# Altium integrated library TI Power Management Power Modules.IntLib: 831 symbols (part 36 of 44)
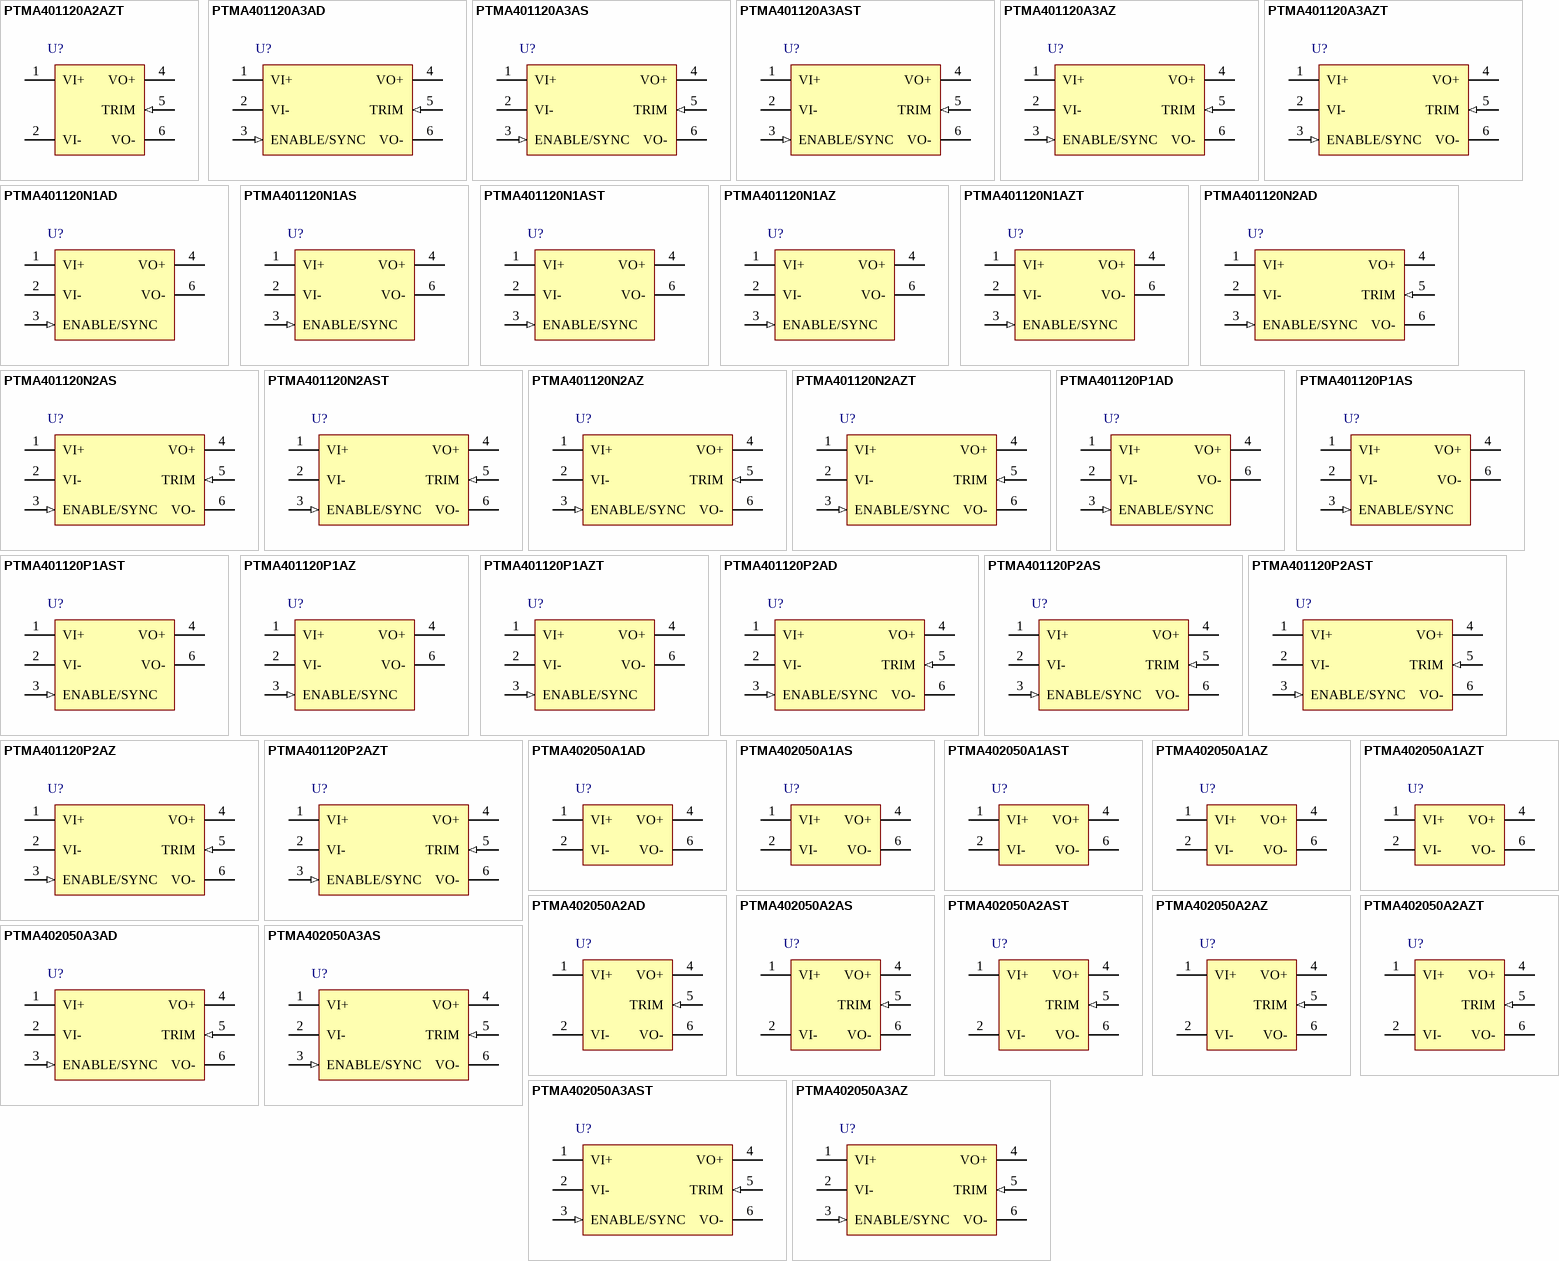
[diagram p58: symbols PTMA401120A2AZT to PTMA402050A3AZ]

## PTMA402050A1AZ
designator U?
10 W, 36 to 75 V Input, 1500 V Isolation, DC-DC Converter, -40 to 85 degC, 4-pin Module (BET4), Pb-Free (RoHS); Manufacturer: Texas Instruments; PartNumber: PTMA402050A1AZ; Iout(Max)(A): 2; Regulated Outputs(#): 1; SubFamily: Standard Brick Module; Vin(Max)(V): 75; Vin(Min)(V): 36; Vout(Max)(V): 5.5; Vout(Min)(V): 4.5; DatasheetVersion: SLTS259B; PackageVersion: 4207711-2/B; PackageReference: BET4; PackageDescription: 4-Pin Plastic Special Shape, Body 24.38 x 27.94 mm; Supplier 1: Digi-Key; Supplier Part Number 1: 296-21475-ND; Supplier 2: Newark; Supplier Part Number 2: 81K3746; Supplier 3: Mouser; Supplier Part Number 3: 595-PTMA402050A1AZ; Eco-Plan: Pb-Free (RoHS); Mounting Technology: Surface Mount; ComponentLink1Description: Manufacturer URL; ComponentLink1URL: http://www.ti.com/; ComponentLink2Description: Datasheet; ComponentLink2URL: http://www.ti.com/general/docs/lit/getliterature.tsp?genericPartNumber=PTMA402050&fileType=pdf; ComponentLink3Description: Package Specification; ComponentLink3URL: http://www.ti.com/litv/pdf/mpds254a; ComponentLink4Description: URL Link1; ComponentLink4URL: Samples URL:http://www.ti.com/product/ptma402050#samples
footprint TI-BET4_V (Module, 4-Leads, Body 27.94x24.38mm)
pins: 1 VI+ (power) "The positive input for the module with respect to VI-. When powering the module from a negative input voltage, this input is connected to the input source ground.", 2 VI- (power) "The negative input supply for the module, and the 0-V reference for the Enable/Sync inputs. When powering the module from a positive source, this input is connected to the input source return.", 4 VO+ (power) "This is the positive power output with respect to VO-. It is dc isolated from the input power pins.", 6 VO- (power) "This is the output power return for the VO+ bus. This terminal should be connected to the common of the load circuit."

## PTMA402050A1AZT
designator U?
10 W, 36 to 75 V Input, 1500 V Isolation, DC-DC Converter, -40 to 85 degC, 4-pin Module (BET4); Manufacturer: Texas Instruments; PartNumber: PTMA402050A1AZT; Eco-Plan: TBD; Iout(Max)(A): 2; Regulated Outputs(#): 1; SubFamily: Standard Brick Module; Vin(Max)(V): 75; Vin(Min)(V): 36; Vout(Max)(V): 5.5; Vout(Min)(V): 4.5; DatasheetVersion: SLTS259B; PackageVersion: 4207711-2/B; PackageReference: BET4; PackageDescription: 4-Pin Plastic Special Shape, Body 24.38 x 27.94 mm; Supplier 1: Digi-Key; Supplier Part Number 1: PTMA402050A1AZT-ND; Supplier 2: Mouser; Supplier Part Number 2: 595-PTMA402050A1AZT; Mounting Technology: Surface Mount; ComponentLink1Description: Manufacturer URL; ComponentLink1URL: http://www.ti.com/; ComponentLink2Description: Datasheet; ComponentLink2URL: http://www.ti.com/general/docs/lit/getliterature.tsp?genericPartNumber=PTMA402050&fileType=pdf; ComponentLink3Description: Package Specification; ComponentLink3URL: http://www.ti.com/litv/pdf/mpds254a; ComponentLink4Description: URL Link1; ComponentLink4URL: Samples URL:http://www.ti.com/product/ptma402050#samples
footprint TI-BET4_V (Module, 4-Leads, Body 27.94x24.38mm)
pins: 1 VI+ (power) "The positive input for the module with respect to VI-. When powering the module from a negative input voltage, this input is connected to the input source ground.", 2 VI- (power) "The negative input supply for the module, and the 0-V reference for the Enable/Sync inputs. When powering the module from a positive source, this input is connected to the input source return.", 4 VO+ (power) "This is the positive power output with respect to VO-. It is dc isolated from the input power pins.", 6 VO- (power) "This is the output power return for the VO+ bus. This terminal should be connected to the common of the load circuit."

## PTMA402050A2AD
designator U?
10 W, 36 to 75 V Input, 1500 V Isolation, DC-DC Converter, -40 to 85 degC, 5-pin Module (EEV5), Pb-Free (RoHS); Manufacturer: Texas Instruments; PartNumber: PTMA402050A2AD; Iout(Max)(A): 2; Regulated Outputs(#): 1; SubFamily: Standard Brick Module; Vin(Max)(V): 75; Vin(Min)(V): 36; Vout(Max)(V): 5.5; Vout(Min)(V): 4.5; DatasheetVersion: SLTS259B; PackageVersion: 4207709/A; PackageReference: EEV5; PackageDescription: 5-Pin Plastic Special Shape, Body 24.38 x 27.94 mm; Supplier 1: Digi-Key; Supplier Part Number 1: 296-32721-ND; Supplier 2: Newark; Supplier Part Number 2: 81K3748; Supplier 3: Mouser; Supplier Part Number 3: 595-PTMA402050A2AD; Eco-Plan: Pb-Free (RoHS); Mounting Technology: Through Hole; ComponentLink1Description: Manufacturer URL; ComponentLink1URL: http://www.ti.com/; ComponentLink2Description: Datasheet; ComponentLink2URL: http://www.ti.com/general/docs/lit/getliterature.tsp?genericPartNumber=PTMA402050&fileType=pdf; ComponentLink3Description: Package Specification; ComponentLink3URL: http://www.ti.com/litv/pdf/mpds252; ComponentLink4Description: URL Link1; ComponentLink4URL: Samples URL:http://www.ti.com/product/ptma402050#samples
footprint TI-EEV5_V (5-Leads Double Sided Module, Body 27.94x24.38mm)
pins: 1 VI+ (power) "The positive input for the module with respect to VI-. When powering the module from a negative input voltage, this input is connected to the input source ground.", 2 VI- (power) "The negative input supply for the module, and the 0-V reference for the Enable/Sync inputs. When powering the module from a positive source, this input is connected to the input source return.", 4 VO+ (power) "This is the positive power output with respect to VO-. It is dc isolated from the input power pins.", 5 TRIM (in) "This pin allows the output voltage set point of the module to be increased or decreased up to +/- 10 %. Connecting a resistor between this terminal and VO+ decreases the output voltage set point. Connecting a resistor (See Datasheet)", 6 VO- (power) "This is the output power return for the VO+ bus. This terminal should be connected to the common of the load circuit."

## PTMA402050A2AS
designator U?
10 W, 36 to 75 V Input, 1500 V Isolation, DC-DC Converter, -40 to 85 degC, 5-pin Module (EEW5); Manufacturer: Texas Instruments; PartNumber: PTMA402050A2AS; Eco-Plan: TBD; Iout(Max)(A): 2; Regulated Outputs(#): 1; SubFamily: Standard Brick Module; Vin(Max)(V): 75; Vin(Min)(V): 36; Vout(Max)(V): 5.5; Vout(Min)(V): 4.5; DatasheetVersion: SLTS259B; PackageVersion: 4207710/A; PackageReference: EEW5; PackageDescription: 5-Pin Plastic Special Shape, Body 24.38 x 27.94 mm; Supplier 1: Digi-Key; Supplier Part Number 1: PTMA402050A2AS-ND; Supplier 2: Mouser; Supplier Part Number 2: 595-PTMA402050A2AS; Mounting Technology: Surface Mount; ComponentLink1Description: Manufacturer URL; ComponentLink1URL: http://www.ti.com/; ComponentLink2Description: Datasheet; ComponentLink2URL: http://www.ti.com/general/docs/lit/getliterature.tsp?genericPartNumber=PTMA402050&fileType=pdf; ComponentLink3Description: Package Specification; ComponentLink3URL: http://www.ti.com/litv/pdf/mpds253; ComponentLink4Description: URL Link1; ComponentLink4URL: Samples URL:http://www.ti.com/product/ptma402050#samples
footprint TI-EEW5_V (Module, 5-Leads, Body 27.94x24.38mm)
pins: 1 VI+ (power) "The positive input for the module with respect to VI-. When powering the module from a negative input voltage, this input is connected to the input source ground.", 2 VI- (power) "The negative input supply for the module, and the 0-V reference for the Enable/Sync inputs. When powering the module from a positive source, this input is connected to the input source return.", 4 VO+ (power) "This is the positive power output with respect to VO-. It is dc isolated from the input power pins.", 5 TRIM (in) "This pin allows the output voltage set point of the module to be increased or decreased up to +/- 10 %. Connecting a resistor between this terminal and VO+ decreases the output voltage set point. Connecting a resistor (See Datasheet)", 6 VO- (power) "This is the output power return for the VO+ bus. This terminal should be connected to the common of the load circuit."

## PTMA402050A2AST
designator U?
10 W, 36 to 75 V Input, 1500 V Isolation, DC-DC Converter, -40 to 85 degC, 5-pin Module (EEW5); Manufacturer: Texas Instruments; PartNumber: PTMA402050A2AST; Eco-Plan: TBD; Iout(Max)(A): 2; Regulated Outputs(#): 1; SubFamily: Standard Brick Module; Vin(Max)(V): 75; Vin(Min)(V): 36; Vout(Max)(V): 5.5; Vout(Min)(V): 4.5; DatasheetVersion: SLTS259B; PackageVersion: 4207710/A; PackageReference: EEW5; PackageDescription: 5-Pin Plastic Special Shape, Body 24.38 x 27.94 mm; Supplier 1: Digi-Key; Supplier Part Number 1: PTMA402050A2AST-ND; Supplier 2: Mouser; Supplier Part Number 2: 595-PTMA402050A2AST; Mounting Technology: Surface Mount; ComponentLink1Description: Manufacturer URL; ComponentLink1URL: http://www.ti.com/; ComponentLink2Description: Datasheet; ComponentLink2URL: http://www.ti.com/general/docs/lit/getliterature.tsp?genericPartNumber=PTMA402050&fileType=pdf; ComponentLink3Description: Package Specification; ComponentLink3URL: http://www.ti.com/litv/pdf/mpds253; ComponentLink4Description: URL Link1; ComponentLink4URL: Samples URL:http://www.ti.com/product/ptma402050#samples
footprint TI-EEW5_V (Module, 5-Leads, Body 27.94x24.38mm)
pins: 1 VI+ (power) "The positive input for the module with respect to VI-. When powering the module from a negative input voltage, this input is connected to the input source ground.", 2 VI- (power) "The negative input supply for the module, and the 0-V reference for the Enable/Sync inputs. When powering the module from a positive source, this input is connected to the input source return.", 4 VO+ (power) "This is the positive power output with respect to VO-. It is dc isolated from the input power pins.", 5 TRIM (in) "This pin allows the output voltage set point of the module to be increased or decreased up to +/- 10 %. Connecting a resistor between this terminal and VO+ decreases the output voltage set point. Connecting a resistor (See Datasheet)", 6 VO- (power) "This is the output power return for the VO+ bus. This terminal should be connected to the common of the load circuit."

## PTMA402050A2AZ
designator U?
10 W, 36 to 75 V Input, 1500 V Isolation, DC-DC Converter, -40 to 85 degC, 5-pin Module (BEW5), Pb-Free (RoHS); Manufacturer: Texas Instruments; PartNumber: PTMA402050A2AZ; Iout(Max)(A): 2; Regulated Outputs(#): 1; SubFamily: Standard Brick Module; Vin(Max)(V): 75; Vin(Min)(V): 36; Vout(Max)(V): 5.5; Vout(Min)(V): 4.5; DatasheetVersion: SLTS259B; PackageVersion: 4207712/B; PackageReference: BEW5; PackageDescription: 5-Pin Plastic Special Shape, Body 24.38 x 27.94 mm; Supplier 1: Digi-Key; Supplier Part Number 1: PTMA402050A2AZ-ND; Supplier 2: Mouser; Supplier Part Number 2: 595-PTMA402050A2AZ; Eco-Plan: Pb-Free (RoHS); Mounting Technology: Surface Mount; ComponentLink1Description: Manufacturer URL; ComponentLink1URL: http://www.ti.com/; ComponentLink2Description: Datasheet; ComponentLink2URL: http://www.ti.com/general/docs/lit/getliterature.tsp?genericPartNumber=PTMA402050&fileType=pdf; ComponentLink3Description: Package Specification; ComponentLink3URL: http://www.ti.com/litv/pdf/mpds257a; ComponentLink4Description: URL Link1; ComponentLink4URL: Samples URL:http://www.ti.com/product/ptma402050#samples
footprint TI-BEW5_V (Module, 5-Leads, Body 27.94x24.38mm)
pins: 1 VI+ (power) "The positive input for the module with respect to VI-. When powering the module from a negative input voltage, this input is connected to the input source ground.", 2 VI- (power) "The negative input supply for the module, and the 0-V reference for the Enable/Sync inputs. When powering the module from a positive source, this input is connected to the input source return.", 4 VO+ (power) "This is the positive power output with respect to VO-. It is dc isolated from the input power pins.", 5 TRIM (in) "This pin allows the output voltage set point of the module to be increased or decreased up to +/- 10 %. Connecting a resistor between this terminal and VO+ decreases the output voltage set point. Connecting a resistor (See Datasheet)", 6 VO- (power) "This is the output power return for the VO+ bus. This terminal should be connected to the common of the load circuit."

## PTMA402050A2AZT
designator U?
10 W, 36 to 75 V Input, 1500 V Isolation, DC-DC Converter, -40 to 85 degC, 5-pin Module (BEW5); Manufacturer: Texas Instruments; PartNumber: PTMA402050A2AZT; Eco-Plan: TBD; Iout(Max)(A): 2; Regulated Outputs(#): 1; SubFamily: Standard Brick Module; Vin(Max)(V): 75; Vin(Min)(V): 36; Vout(Max)(V): 5.5; Vout(Min)(V): 4.5; DatasheetVersion: SLTS259B; PackageVersion: 4207712/B; PackageReference: BEW5; PackageDescription: 5-Pin Plastic Special Shape, Body 24.38 x 27.94 mm; Supplier 1: Digi-Key; Supplier Part Number 1: PTMA402050A2AZT-ND; Supplier 2: Mouser; Supplier Part Number 2: 595-PTMA402050A2AZT; Mounting Technology: Surface Mount; ComponentLink1Description: Manufacturer URL; ComponentLink1URL: http://www.ti.com/; ComponentLink2Description: Datasheet; ComponentLink2URL: http://www.ti.com/general/docs/lit/getliterature.tsp?genericPartNumber=PTMA402050&fileType=pdf; ComponentLink3Description: Package Specification; ComponentLink3URL: http://www.ti.com/litv/pdf/mpds257a; ComponentLink4Description: URL Link1; ComponentLink4URL: Samples URL:http://www.ti.com/product/ptma402050#samples
footprint TI-BEW5_V (Module, 5-Leads, Body 27.94x24.38mm)
pins: 1 VI+ (power) "The positive input for the module with respect to VI-. When powering the module from a negative input voltage, this input is connected to the input source ground.", 2 VI- (power) "The negative input supply for the module, and the 0-V reference for the Enable/Sync inputs. When powering the module from a positive source, this input is connected to the input source return.", 4 VO+ (power) "This is the positive power output with respect to VO-. It is dc isolated from the input power pins.", 5 TRIM (in) "This pin allows the output voltage set point of the module to be increased or decreased up to +/- 10 %. Connecting a resistor between this terminal and VO+ decreases the output voltage set point. Connecting a resistor (See Datasheet)", 6 VO- (power) "This is the output power return for the VO+ bus. This terminal should be connected to the common of the load circuit."

## PTMA402050A3AD
designator U?
10 W, 36 to 75 V Input, 1500 V Isolation, DC-DC Converter, -40 to 85 degC, 6-pin Module (EEP6), Pb-Free (RoHS); Manufacturer: Texas Instruments; PartNumber: PTMA402050A3AD; Iout(Max)(A): 2; Regulated Outputs(#): 1; SubFamily: 48V Standard Pinout Brick and 36V to 75V Input; Vin(Max)(V): 75; Vin(Min)(V): 36; Vout(Max)(V): 5.5; Vout(Min)(V): 4.5; DatasheetVersion: SLTS259B; PackageVersion: 4207367-4/C; PackageReference: EEP6; PackageDescription: 6-Pin Plastic Special Shape, Body 24.38 x 27.94 mm; Supplier 1: Digi-Key; Supplier Part Number 1: 296-21476-ND; Supplier 2: Newark; Supplier Part Number 2: 81K3753; Supplier 3: Mouser; Supplier Part Number 3: 595-PTMA402050A3AD; Eco-Plan: Pb-Free (RoHS); Mounting Technology: Through Hole; ComponentLink1Description: Manufacturer URL; ComponentLink1URL: http://www.ti.com/; ComponentLink2Description: Datasheet; ComponentLink2URL: http://www.ti.com/general/docs/lit/getliterature.tsp?genericPartNumber=PTMA402050&fileType=pdf; ComponentLink3Description: Package Specification; ComponentLink3URL: http://www.ti.com/litv/pdf/mpds232b; ComponentLink4Description: URL Link1; ComponentLink4URL: Samples URL:http://www.ti.com/product/ptma402050#samples
footprint TI-EEP6_V (Module, 6-Leads, Body 27.94x24.38mm)
pins: 1 VI+ (power) "The positive input for the module with respect to VI- When powering the module from a negative input voltage, this input is connected to the input source ground.", 2 VI- (power) "The negative input supply for the module, and the 0-V reference for the Enable/Sync inputs. When powering the module from a positive source, this input is connected to the input source return.", 3 ENABLE/SYNC (in), 4 VO+ (power) "This is the positive power output with respect to VO-. It is dc isolated from the input power pins.", 5 TRIM (in) "This pin allows the output voltage set point of the module to be increased or decreased up to +/- 10 %. Connecting a resistor between this terminal and VO+ decreases the output voltage set point. Connecting a resistor (See Datasheet)", 6 VO- (power) "This is the output power return for the VO+ bus. This terminal should be connected to the common of the load circuit."

## PTMA402050A3AS
designator U?
10 W, 36 to 75 V Input, 1500 V Isolation, DC-DC Converter, -40 to 85 degC, 6-pin Module (EET6); Manufacturer: Texas Instruments; PartNumber: PTMA402050A3AS; Eco-Plan: TBD; Iout(Max)(A): 2; Regulated Outputs(#): 1; SubFamily: 48V Standard Pinout Brick and 36V to 75V Input; Vin(Max)(V): 75; Vin(Min)(V): 36; Vout(Max)(V): 5.5; Vout(Min)(V): 4.5; DatasheetVersion: SLTS259B; PackageVersion: 4207368-4/C; PackageReference: EET6; PackageDescription: 6-Pin Plastic Special Shape, Body 24.38 x 27.94 mm; Supplier 1: Digi-Key; Supplier Part Number 1: PTMA402050A3AS-ND; Supplier 2: Mouser; Supplier Part Number 2: 595-PTMA402050A3AS; Mounting Technology: Surface Mount; ComponentLink1Description: Manufacturer URL; ComponentLink1URL: http://www.ti.com/; ComponentLink2Description: Datasheet; ComponentLink2URL: http://www.ti.com/general/docs/lit/getliterature.tsp?genericPartNumber=PTMA402050&fileType=pdf; ComponentLink3Description: Package Specification; ComponentLink3URL: http://www-s.ti.com/sc/psheets/mpds233b/mpds233b.pdf; ComponentLink4Description: URL Link1; ComponentLink4URL: Samples URL:http://www.ti.com/product/ptma402050#samples
footprint TI-EET6_V (Module, 6-Leads, Body 27.94x24.38mm)
pins: 1 VI+ (power) "The positive input for the module with respect to VI- When powering the module from a negative input voltage, this input is connected to the input source ground.", 2 VI- (power) "The negative input supply for the module, and the 0-V reference for the Enable/Sync inputs. When powering the module from a positive source, this input is connected to the input source return.", 3 ENABLE/SYNC (in), 4 VO+ (power) "This is the positive power output with respect to VO-. It is dc isolated from the input power pins.", 5 TRIM (in) "This pin allows the output voltage set point of the module to be increased or decreased up to +/- 10 %. Connecting a resistor between this terminal and VO+ decreases the output voltage set point. Connecting a resistor (See Datasheet)", 6 VO- (power) "This is the output power return for the VO+ bus. This terminal should be connected to the common of the load circuit."

## PTMA402050A3AST
designator U?
10 W, 36 to 75 V Input, 1500 V Isolation, DC-DC Converter, -40 to 85 degC, 6-pin Module (EET6); Manufacturer: Texas Instruments; PartNumber: PTMA402050A3AST; Eco-Plan: TBD; Iout(Max)(A): 2; Regulated Outputs(#): 1; SubFamily: 48V Standard Pinout Brick and 36V to 75V Input; Vin(Max)(V): 75; Vin(Min)(V): 36; Vout(Max)(V): 5.5; Vout(Min)(V): 4.5; DatasheetVersion: SLTS259B; PackageVersion: 4207368-4/C; PackageReference: EET6; PackageDescription: 6-Pin Plastic Special Shape, Body 24.38 x 27.94 mm; Supplier 1: Digi-Key; Supplier Part Number 1: PTMA402050A3AST-ND; Supplier 2: Mouser; Supplier Part Number 2: 595-PTMA402050A3AST; Mounting Technology: Surface Mount; ComponentLink1Description: Manufacturer URL; ComponentLink1URL: http://www.ti.com/; ComponentLink2Description: Datasheet; ComponentLink2URL: http://www.ti.com/general/docs/lit/getliterature.tsp?genericPartNumber=PTMA402050&fileType=pdf; ComponentLink3Description: Package Specification; ComponentLink3URL: http://www-s.ti.com/sc/psheets/mpds233b/mpds233b.pdf; ComponentLink4Description: URL Link1; ComponentLink4URL: Samples URL:http://www.ti.com/product/ptma402050#samples
footprint TI-EET6_V (Module, 6-Leads, Body 27.94x24.38mm)
pins: 1 VI+ (power) "The positive input for the module with respect to VI- When powering the module from a negative input voltage, this input is connected to the input source ground.", 2 VI- (power) "The negative input supply for the module, and the 0-V reference for the Enable/Sync inputs. When powering the module from a positive source, this input is connected to the input source return.", 3 ENABLE/SYNC (in), 4 VO+ (power) "This is the positive power output with respect to VO-. It is dc isolated from the input power pins.", 5 TRIM (in) "This pin allows the output voltage set point of the module to be increased or decreased up to +/- 10 %. Connecting a resistor between this terminal and VO+ decreases the output voltage set point. Connecting a resistor (See Datasheet)", 6 VO- (power) "This is the output power return for the VO+ bus. This terminal should be connected to the common of the load circuit."

## PTMA402050A3AZ
designator U?
10 W, 36 to 75 V Input, 1500 V Isolation, DC-DC Converter, -40 to 85 degC, 6-pin Module (BET6), Pb-Free (RoHS); Manufacturer: Texas Instruments; PartNumber: PTMA402050A3AZ; Iout(Max)(A): 2; Regulated Outputs(#): 1; SubFamily: 48V Standard Pinout Brick and 36V to 75V Input; Vin(Max)(V): 75; Vin(Min)(V): 36; Vout(Max)(V): 5.5; Vout(Min)(V): 4.5; DatasheetVersion: SLTS259B; PackageVersion: 4207711-4/B; PackageReference: BET6; PackageDescription: 6-Pin Plastic Special Shape, Body 24.38 x 27.94 mm; Supplier 1: Digi-Key; Supplier Part Number 1: 296-21477-ND; Supplier 2: Newark; Supplier Part Number 2: 81K3756; Supplier 3: Mouser; Supplier Part Number 3: 595-PTMA402050A3AZ; Eco-Plan: Pb-Free (RoHS); Mounting Technology: Surface Mount; ComponentLink1Description: Manufacturer URL; ComponentLink1URL: http://www.ti.com/; ComponentLink2Description: Datasheet; ComponentLink2URL: http://www.ti.com/general/docs/lit/getliterature.tsp?genericPartNumber=PTMA402050&fileType=pdf; ComponentLink3Description: Package Specification; ComponentLink3URL: http://www.ti.com/lit/ml/mpds256a/mpds256a.pdf; ComponentLink4Description: URL Link1; ComponentLink4URL: Samples URL:http://www.ti.com/product/ptma402050#samples
footprint TI-BET6_V (Module, 6-Leads, Body 27.94x24.38mm)
pins: 1 VI+ (power) "The positive input for the module with respect to VI- When powering the module from a negative input voltage, this input is connected to the input source ground.", 2 VI- (power) "The negative input supply for the module, and the 0-V reference for the Enable/Sync inputs. When powering the module from a positive source, this input is connected to the input source return.", 3 ENABLE/SYNC (in), 4 VO+ (power) "This is the positive power output with respect to VO-. It is dc isolated from the input power pins.", 5 TRIM (in) "This pin allows the output voltage set point of the module to be increased or decreased up to +/- 10 %. Connecting a resistor between this terminal and VO+ decreases the output voltage set point. Connecting a resistor (See Datasheet)", 6 VO- (power) "This is the output power return for the VO+ bus. This terminal should be connected to the common of the load circuit."

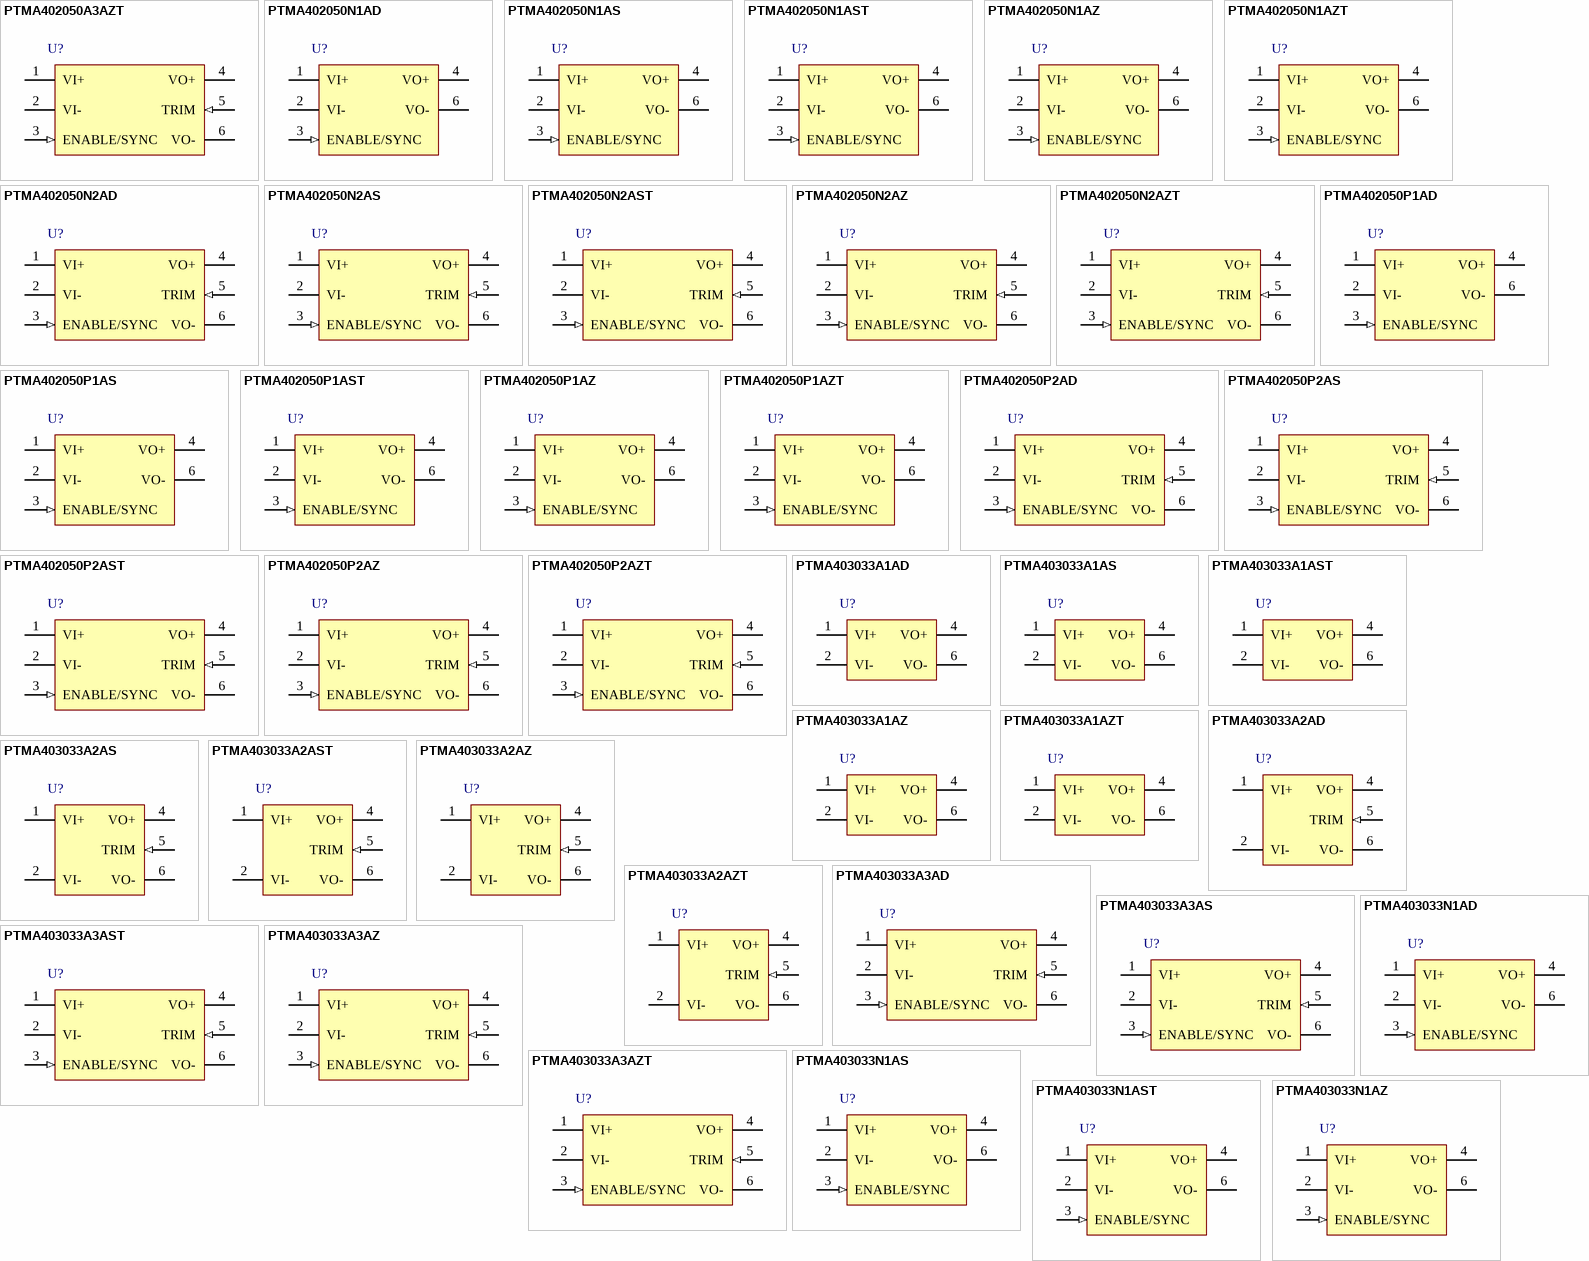
[diagram p20: symbols PTMA402050A3AZT to PTMA403033N1AZ]

## PTMA402050A3AZT
designator U?
10 W, 36 to 75 V Input, 1500 V Isolation, DC-DC Converter, -40 to 85 degC, 6-pin Module (BET6); Manufacturer: Texas Instruments; PartNumber: PTMA402050A3AZT; Eco-Plan: TBD; Iout(Max)(A): 2; Regulated Outputs(#): 1; SubFamily: 48V Standard Pinout Brick and 36V to 75V Input; Vin(Max)(V): 75; Vin(Min)(V): 36; Vout(Max)(V): 5.5; Vout(Min)(V): 4.5; DatasheetVersion: SLTS259B; PackageVersion: 4207711-4/B; PackageReference: BET6; PackageDescription: 6-Pin Plastic Special Shape, Body 24.38 x 27.94 mm; Supplier 1: Digi-Key; Supplier Part Number 1: PTMA402050A3AZT-ND; Supplier 2: Mouser; Supplier Part Number 2: 595-PTMA402050A3AZT; Mounting Technology: Surface Mount; ComponentLink1Description: Manufacturer URL; ComponentLink1URL: http://www.ti.com/; ComponentLink2Description: Datasheet; ComponentLink2URL: http://www.ti.com/general/docs/lit/getliterature.tsp?genericPartNumber=PTMA402050&fileType=pdf; ComponentLink3Description: Package Specification; ComponentLink3URL: http://www.ti.com/lit/ml/mpds256a/mpds256a.pdf; ComponentLink4Description: URL Link1; ComponentLink4URL: Samples URL:http://www.ti.com/product/ptma402050#samples
footprint TI-BET6_V (Module, 6-Leads, Body 27.94x24.38mm)
pins: 1 VI+ (power) "The positive input for the module with respect to VI- When powering the module from a negative input voltage, this input is connected to the input source ground.", 2 VI- (power) "The negative input supply for the module, and the 0-V reference for the Enable/Sync inputs. When powering the module from a positive source, this input is connected to the input source return.", 3 ENABLE/SYNC (in), 4 VO+ (power) "This is the positive power output with respect to VO-. It is dc isolated from the input power pins.", 5 TRIM (in) "This pin allows the output voltage set point of the module to be increased or decreased up to +/- 10 %. Connecting a resistor between this terminal and VO+ decreases the output voltage set point. Connecting a resistor (See Datasheet)", 6 VO- (power) "This is the output power return for the VO+ bus. This terminal should be connected to the common of the load circuit."

## PTMA402050N1AD
designator U?
10 W, 36 to 75 V Input, 1500 V Isolation, DC-DC Converter, -40 to 85 degC, 5-pin Module (EEP5), Pb-Free (RoHS); Manufacturer: Texas Instruments; PartNumber: PTMA402050N1AD; Iout(Max)(A): 2; Regulated Outputs(#): 1; SubFamily: Standard Brick Module; Vin(Max)(V): 75; Vin(Min)(V): 36; Vout(Max)(V): 5.5; Vout(Min)(V): 4.5; DatasheetVersion: SLTS259B; PackageVersion: 4207367-3/C; PackageReference: EEP5; PackageDescription: 5-Pin Plastic Special Shape, Body 24.38 x 27.94 mm; Supplier 1: Digi-Key; Supplier Part Number 1: PTMA402050N1AD-ND; Supplier 2: Mouser; Supplier Part Number 2: 595-PTMA402050N1AD; Eco-Plan: Pb-Free (RoHS); Mounting Technology: Through Hole; ComponentLink1Description: Manufacturer URL; ComponentLink1URL: http://www.ti.com/; ComponentLink2Description: Datasheet; ComponentLink2URL: http://www.ti.com/general/docs/lit/getliterature.tsp?genericPartNumber=PTMA402050&fileType=pdf; ComponentLink3Description: Package Specification; ComponentLink3URL: http://www.ti.com/litv/pdf/mpds249; ComponentLink4Description: URL Link1; ComponentLink4URL: Samples URL:http://www.ti.com/product/ptma402050#samples
footprint TI-EEP5_V (Module, 5-Leads, Body 27.94x24.38mm)
pins: 1 VI+ (power) "The positive input for the module with respect to VI-. When powering the module from a negative input voltage, this input is connected to the input source ground.", 2 VI- (power) "The negative input supply for the module, and the 0-V reference for the Enable/Sync inputs. When powering the module from a positive source, this input is connected to the input source return.", 3 ENABLE/SYNC (in) "The Enable input is an open-base logic input that is referenced to VI-. Two ON/OFF enable options are available, positve logic and negative logic. Positive logic devices are enabled by applying a logic high voltage (Open) (See Datasheet)", 4 VO+ (power) "This is the positive power output with respect to VO-. It is dc isolated from the input power pins.", 6 VO- (power) "This is the output power return for the VO+ bus. This terminal should be connected to the common of the load circuit."

## PTMA402050N1AS
designator U?
10 W, 36 to 75 V Input, 1500 V Isolation, DC-DC Converter, -40 to 85 degC, 5-pin Module (EET5); Manufacturer: Texas Instruments; PartNumber: PTMA402050N1AS; Eco-Plan: TBD; Iout(Max)(A): 2; Regulated Outputs(#): 1; SubFamily: Standard Brick Module; Vin(Max)(V): 75; Vin(Min)(V): 36; Vout(Max)(V): 5.5; Vout(Min)(V): 4.5; DatasheetVersion: SLTS259B; PackageVersion: 4207368-3/C; PackageReference: EET5; PackageDescription: 5-Pin Plastic Special Shape, Body 24.38 x 27.94 mm; Supplier 1: Digi-Key; Supplier Part Number 1: PTMA402050N1AS-ND; Supplier 2: Mouser; Supplier Part Number 2: 595-PTMA402050N1AS; Mounting Technology: Surface Mount; ComponentLink1Description: Manufacturer URL; ComponentLink1URL: http://www.ti.com/; ComponentLink2Description: Datasheet; ComponentLink2URL: http://www.ti.com/general/docs/lit/getliterature.tsp?genericPartNumber=PTMA402050&fileType=pdf; ComponentLink3Description: Package Specification; ComponentLink3URL: http://www.ti.com/litv/pdf/mpds250; ComponentLink4Description: URL Link1; ComponentLink4URL: Samples URL:http://www.ti.com/product/ptma402050#samples
footprint TI-EET5_V (Module, 5-Leads, Body 27.94x24.38mm)
pins: 1 VI+ (power) "The positive input for the module with respect to VI-. When powering the module from a negative input voltage, this input is connected to the input source ground.", 2 VI- (power) "The negative input supply for the module, and the 0-V reference for the Enable/Sync inputs. When powering the module from a positive source, this input is connected to the input source return.", 3 ENABLE/SYNC (in) "The Enable input is an open-base logic input that is referenced to VI-. Two ON/OFF enable options are available, positve logic and negative logic. Positive logic devices are enabled by applying a logic high voltage (Open) (See Datasheet)", 4 VO+ (power) "This is the positive power output with respect to VO-. It is dc isolated from the input power pins.", 6 VO- (power) "This is the output power return for the VO+ bus. This terminal should be connected to the common of the load circuit."

## PTMA402050N1AST
designator U?
10 W, 36 to 75 V Input, 1500 V Isolation, DC-DC Converter, -40 to 85 degC, 5-pin Module (EET5); Manufacturer: Texas Instruments; PartNumber: PTMA402050N1AST; Eco-Plan: TBD; Iout(Max)(A): 2; Regulated Outputs(#): 1; SubFamily: Standard Brick Module; Vin(Max)(V): 75; Vin(Min)(V): 36; Vout(Max)(V): 5.5; Vout(Min)(V): 4.5; DatasheetVersion: SLTS259B; PackageVersion: 4207368-3/C; PackageReference: EET5; PackageDescription: 5-Pin Plastic Special Shape, Body 24.38 x 27.94 mm; Supplier 1: Digi-Key; Supplier Part Number 1: PTMA402050N1AST-ND; Supplier 2: Mouser; Supplier Part Number 2: 595-PTMA402050N1AST; Mounting Technology: Surface Mount; ComponentLink1Description: Manufacturer URL; ComponentLink1URL: http://www.ti.com/; ComponentLink2Description: Datasheet; ComponentLink2URL: http://www.ti.com/general/docs/lit/getliterature.tsp?genericPartNumber=PTMA402050&fileType=pdf; ComponentLink3Description: Package Specification; ComponentLink3URL: http://www.ti.com/litv/pdf/mpds250; ComponentLink4Description: URL Link1; ComponentLink4URL: Samples URL:http://www.ti.com/product/ptma402050#samples
footprint TI-EET5_V (Module, 5-Leads, Body 27.94x24.38mm)
pins: 1 VI+ (power) "The positive input for the module with respect to VI-. When powering the module from a negative input voltage, this input is connected to the input source ground.", 2 VI- (power) "The negative input supply for the module, and the 0-V reference for the Enable/Sync inputs. When powering the module from a positive source, this input is connected to the input source return.", 3 ENABLE/SYNC (in) "The Enable input is an open-base logic input that is referenced to VI-. Two ON/OFF enable options are available, positve logic and negative logic. Positive logic devices are enabled by applying a logic high voltage (Open) (See Datasheet)", 4 VO+ (power) "This is the positive power output with respect to VO-. It is dc isolated from the input power pins.", 6 VO- (power) "This is the output power return for the VO+ bus. This terminal should be connected to the common of the load circuit."

## PTMA402050N1AZ
designator U?
10 W, 36 to 75 V Input, 1500 V Isolation, DC-DC Converter, -40 to 85 degC, 5-pin Module (BET5), Pb-Free (RoHS); Manufacturer: Texas Instruments; PartNumber: PTMA402050N1AZ; Iout(Max)(A): 2; Regulated Outputs(#): 1; SubFamily: Standard Brick Module; Vin(Max)(V): 75; Vin(Min)(V): 36; Vout(Max)(V): 5.5; Vout(Min)(V): 4.5; DatasheetVersion: SLTS259B; PackageVersion: 4207711-3/B; PackageReference: BET5; PackageDescription: 5-Pin Plastic Special Shape, Body 24.38 x 27.94 mm; Supplier 1: Digi-Key; Supplier Part Number 1: PTMA402050N1AZ-ND; Supplier 2: Mouser; Supplier Part Number 2: 595-PTMA402050N1AZ; Eco-Plan: Pb-Free (RoHS); Mounting Technology: Surface Mount; ComponentLink1Description: Manufacturer URL; ComponentLink1URL: http://www.ti.com/; ComponentLink2Description: Datasheet; ComponentLink2URL: http://www.ti.com/general/docs/lit/getliterature.tsp?genericPartNumber=PTMA402050&fileType=pdf; ComponentLink3Description: Package Specification; ComponentLink3URL: http://www-s.ti.com/sc/psheets/mpds255a/mpds255a.pdf; ComponentLink4Description: URL Link1; ComponentLink4URL: Samples URL:http://www.ti.com/product/ptma402050#samples
footprint TI-BET5_V (Module, 5-Leads, Body 27.94x24.38mm)
pins: 1 VI+ (power) "The positive input for the module with respect to VI-. When powering the module from a negative input voltage, this input is connected to the input source ground.", 2 VI- (power) "The negative input supply for the module, and the 0-V reference for the Enable/Sync inputs. When powering the module from a positive source, this input is connected to the input source return.", 3 ENABLE/SYNC (in) "The Enable input is an open-base logic input that is referenced to VI-. Two ON/OFF enable options are available, positve logic and negative logic. Positive logic devices are enabled by applying a logic high voltage (Open) (See Datasheet)", 4 VO+ (power) "This is the positive power output with respect to VO-. It is dc isolated from the input power pins.", 6 VO- (power) "This is the output power return for the VO+ bus. This terminal should be connected to the common of the load circuit."

## PTMA402050N1AZT
designator U?
10 W, 36 to 75 V Input, 1500 V Isolation, DC-DC Converter, -40 to 85 degC, 5-pin Module (BET5); Manufacturer: Texas Instruments; PartNumber: PTMA402050N1AZT; Eco-Plan: TBD; Iout(Max)(A): 2; Regulated Outputs(#): 1; SubFamily: Standard Brick Module; Vin(Max)(V): 75; Vin(Min)(V): 36; Vout(Max)(V): 5.5; Vout(Min)(V): 4.5; DatasheetVersion: SLTS259B; PackageVersion: 4207711-3/B; PackageReference: BET5; PackageDescription: 5-Pin Plastic Special Shape, Body 24.38 x 27.94 mm; Supplier 1: Digi-Key; Supplier Part Number 1: PTMA402050N1AZT-ND; Supplier 2: Mouser; Supplier Part Number 2: 595-PTMA402050N1AZT; Mounting Technology: Surface Mount; ComponentLink1Description: Manufacturer URL; ComponentLink1URL: http://www.ti.com/; ComponentLink2Description: Datasheet; ComponentLink2URL: http://www.ti.com/general/docs/lit/getliterature.tsp?genericPartNumber=PTMA402050&fileType=pdf; ComponentLink3Description: Package Specification; ComponentLink3URL: http://www-s.ti.com/sc/psheets/mpds255a/mpds255a.pdf; ComponentLink4Description: URL Link1; ComponentLink4URL: Samples URL:http://www.ti.com/product/ptma402050#samples
footprint TI-BET5_V (Module, 5-Leads, Body 27.94x24.38mm)
pins: 1 VI+ (power) "The positive input for the module with respect to VI-. When powering the module from a negative input voltage, this input is connected to the input source ground.", 2 VI- (power) "The negative input supply for the module, and the 0-V reference for the Enable/Sync inputs. When powering the module from a positive source, this input is connected to the input source return.", 3 ENABLE/SYNC (in) "The Enable input is an open-base logic input that is referenced to VI-. Two ON/OFF enable options are available, positve logic and negative logic. Positive logic devices are enabled by applying a logic high voltage (Open) (See Datasheet)", 4 VO+ (power) "This is the positive power output with respect to VO-. It is dc isolated from the input power pins.", 6 VO- (power) "This is the output power return for the VO+ bus. This terminal should be connected to the common of the load circuit."

## PTMA402050N2AD
designator U?
10 W, 36 to 75 V Input, 1500 V Isolation, DC-DC Converter, -40 to 85 degC, 6-pin Module (EEP6), Pb-Free (RoHS); Manufacturer: Texas Instruments; PartNumber: PTMA402050N2AD; Iout(Max)(A): 2; Regulated Outputs(#): 1; SubFamily: Standard Brick Module; Vin(Max)(V): 75; Vin(Min)(V): 36; VO Adjustable: TRUE; Vout(Max)(V): 5.5; Vout(Min)(V): 4.5; DatasheetVersion: SLTS259B; PackageVersion: 4207367-4/C; PackageReference: EEP6; PackageDescription: 6-Pin Plastic Special Shape, Body 24.38 x 27.94 mm; Supplier 1: Digi-Key; Supplier Part Number 1: 296-20492-ND; Supplier 2: Newark; Supplier Part Number 2: 81K3763; Supplier 3: Mouser; Supplier Part Number 3: 595-PTMA402050N2AD; Eco-Plan: Pb-Free (RoHS); Mounting Technology: Through Hole; ComponentLink1Description: Manufacturer URL; ComponentLink1URL: http://www.ti.com/; ComponentLink2Description: Datasheet; ComponentLink2URL: http://www.ti.com/general/docs/lit/getliterature.tsp?genericPartNumber=PTMA402050&fileType=pdf; ComponentLink3Description: Package Specification; ComponentLink3URL: http://www.ti.com/litv/pdf/mpds232b; ComponentLink4Description: URL Link1; ComponentLink4URL: Samples URL:http://www.ti.com/product/ptma402050#samples
footprint TI-EEP6_V (Module, 6-Leads, Body 27.94x24.38mm)
pins: 1 VI+ (power) "The positive input for the module with respect to VI- When powering the module from a negative input voltage, this input is connected to the input source ground.", 2 VI- (power) "The negative input supply for the module, and the 0-V reference for the Enable/Sync inputs. When powering the module from a positive source, this input is connected to the input source return.", 3 ENABLE/SYNC (in), 4 VO+ (power) "This is the positive power output with respect to VO-. It is dc isolated from the input power pins.", 5 TRIM (in) "This pin allows the output voltage set point of the module to be increased or decreased up to +/- 10 %. Connecting a resistor between this terminal and VO+ decreases the output voltage set point. Connecting a resistor (See Datasheet)", 6 VO- (power) "This is the output power return for the VO+ bus. This terminal should be connected to the common of the load circuit."

## PTMA402050N2AS
designator U?
10 W, 36 to 75 V Input, 1500 V Isolation, DC-DC Converter, -40 to 85 degC, 6-pin Module (EET6); Manufacturer: Texas Instruments; PartNumber: PTMA402050N2AS; Eco-Plan: TBD; Iout(Max)(A): 2; Regulated Outputs(#): 1; SubFamily: Standard Brick Module; Vin(Max)(V): 75; Vin(Min)(V): 36; VO Adjustable: TRUE; Vout(Max)(V): 5.5; Vout(Min)(V): 4.5; DatasheetVersion: SLTS259B; PackageVersion: 4207368-4/C; PackageReference: EET6; PackageDescription: 6-Pin Plastic Special Shape, Body 24.38 x 27.94 mm; Supplier 1: Digi-Key; Supplier Part Number 1: 296-20493-ND; Supplier 2: Newark; Supplier Part Number 2: 81K3764; Supplier 3: Mouser; Supplier Part Number 3: 595-PTMA402050N2AS; Mounting Technology: Surface Mount; ComponentLink1Description: Manufacturer URL; ComponentLink1URL: http://www.ti.com/; ComponentLink2Description: Datasheet; ComponentLink2URL: http://www.ti.com/general/docs/lit/getliterature.tsp?genericPartNumber=PTMA402050&fileType=pdf; ComponentLink3Description: Package Specification; ComponentLink3URL: http://www-s.ti.com/sc/psheets/mpds233b/mpds233b.pdf; ComponentLink4Description: URL Link1; ComponentLink4URL: Samples URL:http://www.ti.com/product/ptma402050#samples
footprint TI-EET6_V (Module, 6-Leads, Body 27.94x24.38mm)
pins: 1 VI+ (power) "The positive input for the module with respect to VI- When powering the module from a negative input voltage, this input is connected to the input source ground.", 2 VI- (power) "The negative input supply for the module, and the 0-V reference for the Enable/Sync inputs. When powering the module from a positive source, this input is connected to the input source return.", 3 ENABLE/SYNC (in), 4 VO+ (power) "This is the positive power output with respect to VO-. It is dc isolated from the input power pins.", 5 TRIM (in) "This pin allows the output voltage set point of the module to be increased or decreased up to +/- 10 %. Connecting a resistor between this terminal and VO+ decreases the output voltage set point. Connecting a resistor (See Datasheet)", 6 VO- (power) "This is the output power return for the VO+ bus. This terminal should be connected to the common of the load circuit."

## PTMA402050N2AST
designator U?
10 W, 36 to 75 V Input, 1500 V Isolation, DC-DC Converter, -40 to 85 degC, 6-pin Module (EET6); Manufacturer: Texas Instruments; PartNumber: PTMA402050N2AST; Eco-Plan: TBD; Iout(Max)(A): 2; Regulated Outputs(#): 1; SubFamily: Standard Brick Module; Vin(Max)(V): 75; Vin(Min)(V): 36; VO Adjustable: TRUE; Vout(Max)(V): 5.5; Vout(Min)(V): 4.5; DatasheetVersion: SLTS259B; PackageVersion: 4207368-4/C; PackageReference: EET6; PackageDescription: 6-Pin Plastic Special Shape, Body 24.38 x 27.94 mm; Supplier 1: Digi-Key; Supplier Part Number 1: PTMA402050N2AST-ND; Supplier 2: Mouser; Supplier Part Number 2: 595-PTMA402050N2AST; Mounting Technology: Surface Mount; ComponentLink1Description: Manufacturer URL; ComponentLink1URL: http://www.ti.com/; ComponentLink2Description: Datasheet; ComponentLink2URL: http://www.ti.com/general/docs/lit/getliterature.tsp?genericPartNumber=PTMA402050&fileType=pdf; ComponentLink3Description: Package Specification; ComponentLink3URL: http://www-s.ti.com/sc/psheets/mpds233b/mpds233b.pdf; ComponentLink4Description: URL Link1; ComponentLink4URL: Samples URL:http://www.ti.com/product/ptma402050#samples
footprint TI-EET6_V (Module, 6-Leads, Body 27.94x24.38mm)
pins: 1 VI+ (power) "The positive input for the module with respect to VI- When powering the module from a negative input voltage, this input is connected to the input source ground.", 2 VI- (power) "The negative input supply for the module, and the 0-V reference for the Enable/Sync inputs. When powering the module from a positive source, this input is connected to the input source return.", 3 ENABLE/SYNC (in), 4 VO+ (power) "This is the positive power output with respect to VO-. It is dc isolated from the input power pins.", 5 TRIM (in) "This pin allows the output voltage set point of the module to be increased or decreased up to +/- 10 %. Connecting a resistor between this terminal and VO+ decreases the output voltage set point. Connecting a resistor (See Datasheet)", 6 VO- (power) "This is the output power return for the VO+ bus. This terminal should be connected to the common of the load circuit."

## PTMA402050N2AZ
designator U?
10 W, 36 to 75 V Input, 1500 V Isolation, DC-DC Converter, -40 to 85 degC, 6-pin Module (BET6), Pb-Free (RoHS); Manufacturer: Texas Instruments; PartNumber: PTMA402050N2AZ; Iout(Max)(A): 2; Regulated Outputs(#): 1; SubFamily: Standard Brick Module; Vin(Max)(V): 75; Vin(Min)(V): 36; VO Adjustable: TRUE; Vout(Max)(V): 5.5; Vout(Min)(V): 4.5; DatasheetVersion: SLTS259B; PackageVersion: 4207711-4/B; PackageReference: BET6; PackageDescription: 6-Pin Plastic Special Shape, Body 24.38 x 27.94 mm; Supplier 1: Digi-Key; Supplier Part Number 1: 296-24290-ND; Supplier 2: Newark; Supplier Part Number 2: 81K3766; Supplier 3: Mouser; Supplier Part Number 3: 595-PTMA402050N2AZ; Eco-Plan: Pb-Free (RoHS); Mounting Technology: Surface Mount; ComponentLink1Description: Manufacturer URL; ComponentLink1URL: http://www.ti.com/; ComponentLink2Description: Datasheet; ComponentLink2URL: http://www.ti.com/general/docs/lit/getliterature.tsp?genericPartNumber=PTMA402050&fileType=pdf; ComponentLink3Description: Package Specification; ComponentLink3URL: http://www.ti.com/lit/ml/mpds256a/mpds256a.pdf; ComponentLink4Description: URL Link1; ComponentLink4URL: Samples URL:http://www.ti.com/product/ptma402050#samples
footprint TI-BET6_V (Module, 6-Leads, Body 27.94x24.38mm)
pins: 1 VI+ (power) "The positive input for the module with respect to VI- When powering the module from a negative input voltage, this input is connected to the input source ground.", 2 VI- (power) "The negative input supply for the module, and the 0-V reference for the Enable/Sync inputs. When powering the module from a positive source, this input is connected to the input source return.", 3 ENABLE/SYNC (in), 4 VO+ (power) "This is the positive power output with respect to VO-. It is dc isolated from the input power pins.", 5 TRIM (in) "This pin allows the output voltage set point of the module to be increased or decreased up to +/- 10 %. Connecting a resistor between this terminal and VO+ decreases the output voltage set point. Connecting a resistor (See Datasheet)", 6 VO- (power) "This is the output power return for the VO+ bus. This terminal should be connected to the common of the load circuit."

## PTMA402050N2AZT
designator U?
10 W, 36 to 75 V Input, 1500 V Isolation, DC-DC Converter, -40 to 85 degC, 6-pin Module (BET6); Manufacturer: Texas Instruments; PartNumber: PTMA402050N2AZT; Eco-Plan: TBD; Iout(Max)(A): 2; Regulated Outputs(#): 1; SubFamily: Standard Brick Module; Vin(Max)(V): 75; Vin(Min)(V): 36; VO Adjustable: TRUE; Vout(Max)(V): 5.5; Vout(Min)(V): 4.5; DatasheetVersion: SLTS259B; PackageVersion: 4207711-4/B; PackageReference: BET6; PackageDescription: 6-Pin Plastic Special Shape, Body 24.38 x 27.94 mm; Supplier 1: Digi-Key; Supplier Part Number 1: PTMA402050N2AZT-ND; Supplier 2: Mouser; Supplier Part Number 2: 595-PTMA402050N2AZT; Mounting Technology: Surface Mount; ComponentLink1Description: Manufacturer URL; ComponentLink1URL: http://www.ti.com/; ComponentLink2Description: Datasheet; ComponentLink2URL: http://www.ti.com/general/docs/lit/getliterature.tsp?genericPartNumber=PTMA402050&fileType=pdf; ComponentLink3Description: Package Specification; ComponentLink3URL: http://www.ti.com/lit/ml/mpds256a/mpds256a.pdf; ComponentLink4Description: URL Link1; ComponentLink4URL: Samples URL:http://www.ti.com/product/ptma402050#samples
footprint TI-BET6_V (Module, 6-Leads, Body 27.94x24.38mm)
pins: 1 VI+ (power) "The positive input for the module with respect to VI- When powering the module from a negative input voltage, this input is connected to the input source ground.", 2 VI- (power) "The negative input supply for the module, and the 0-V reference for the Enable/Sync inputs. When powering the module from a positive source, this input is connected to the input source return.", 3 ENABLE/SYNC (in), 4 VO+ (power) "This is the positive power output with respect to VO-. It is dc isolated from the input power pins.", 5 TRIM (in) "This pin allows the output voltage set point of the module to be increased or decreased up to +/- 10 %. Connecting a resistor between this terminal and VO+ decreases the output voltage set point. Connecting a resistor (See Datasheet)", 6 VO- (power) "This is the output power return for the VO+ bus. This terminal should be connected to the common of the load circuit."

## PTMA402050P1AD
designator U?
10 W, 36 to 75 V Input, 1500 V Isolation, DC-DC Converter, -40 to 85 degC, 5-pin Module (EEP5), Pb-Free (RoHS); Manufacturer: Texas Instruments; PartNumber: PTMA402050P1AD; Iout(Max)(A): 2; Regulated Outputs(#): 1; SubFamily: Standard Brick Module; Vin(Max)(V): 75; Vin(Min)(V): 36; Vout(Max)(V): 5.5; Vout(Min)(V): 4.5; DatasheetVersion: SLTS259B; PackageVersion: 4207367-3/C; PackageReference: EEP5; PackageDescription: 5-Pin Plastic Special Shape, Body 24.38 x 27.94 mm; Supplier 1: Digi-Key; Supplier Part Number 1: PTMA402050P1AD-ND; Supplier 2: Newark; Supplier Part Number 2: 81K3768; Supplier 3: Mouser; Supplier Part Number 3: 595-PTMA402050P1AD; Eco-Plan: Pb-Free (RoHS); Mounting Technology: Through Hole; ComponentLink1Description: Manufacturer URL; ComponentLink1URL: http://www.ti.com/; ComponentLink2Description: Datasheet; ComponentLink2URL: http://www.ti.com/general/docs/lit/getliterature.tsp?genericPartNumber=PTMA402050&fileType=pdf; ComponentLink3Description: Package Specification; ComponentLink3URL: http://www.ti.com/litv/pdf/mpds249; ComponentLink4Description: URL Link1; ComponentLink4URL: Samples URL:http://www.ti.com/product/ptma402050#samples
footprint TI-EEP5_V (Module, 5-Leads, Body 27.94x24.38mm)
pins: 1 VI+ (power) "The positive input for the module with respect to VI-. When powering the module from a negative input voltage, this input is connected to the input source ground.", 2 VI- (power) "The negative input supply for the module, and the 0-V reference for the Enable/Sync inputs. When powering the module from a positive source, this input is connected to the input source return.", 3 ENABLE/SYNC (in) "The Enable input is an open-base logic input that is referenced to VI-. Two ON/OFF enable options are available, positve logic and negative logic. Positive logic devices are enabled by applying a logic high voltage (Open) (See Datasheet)", 4 VO+ (power) "This is the positive power output with respect to VO-. It is dc isolated from the input power pins.", 6 VO- (power) "This is the output power return for the VO+ bus. This terminal should be connected to the common of the load circuit."